# Altium footprint library Mega2560PCB库.PcbLib: 27 footprints (part 2 of 2)
Each footprint in its own frame and in the unit in brackets; x right, y up, seen from the top. Pads: shape width x height; smd on the part's side, far side on the other; paste and mask are expansions set on the pad; w line width, h text height; cw(c..) or ccw(c..) is an arc to the next point about the centre after c.
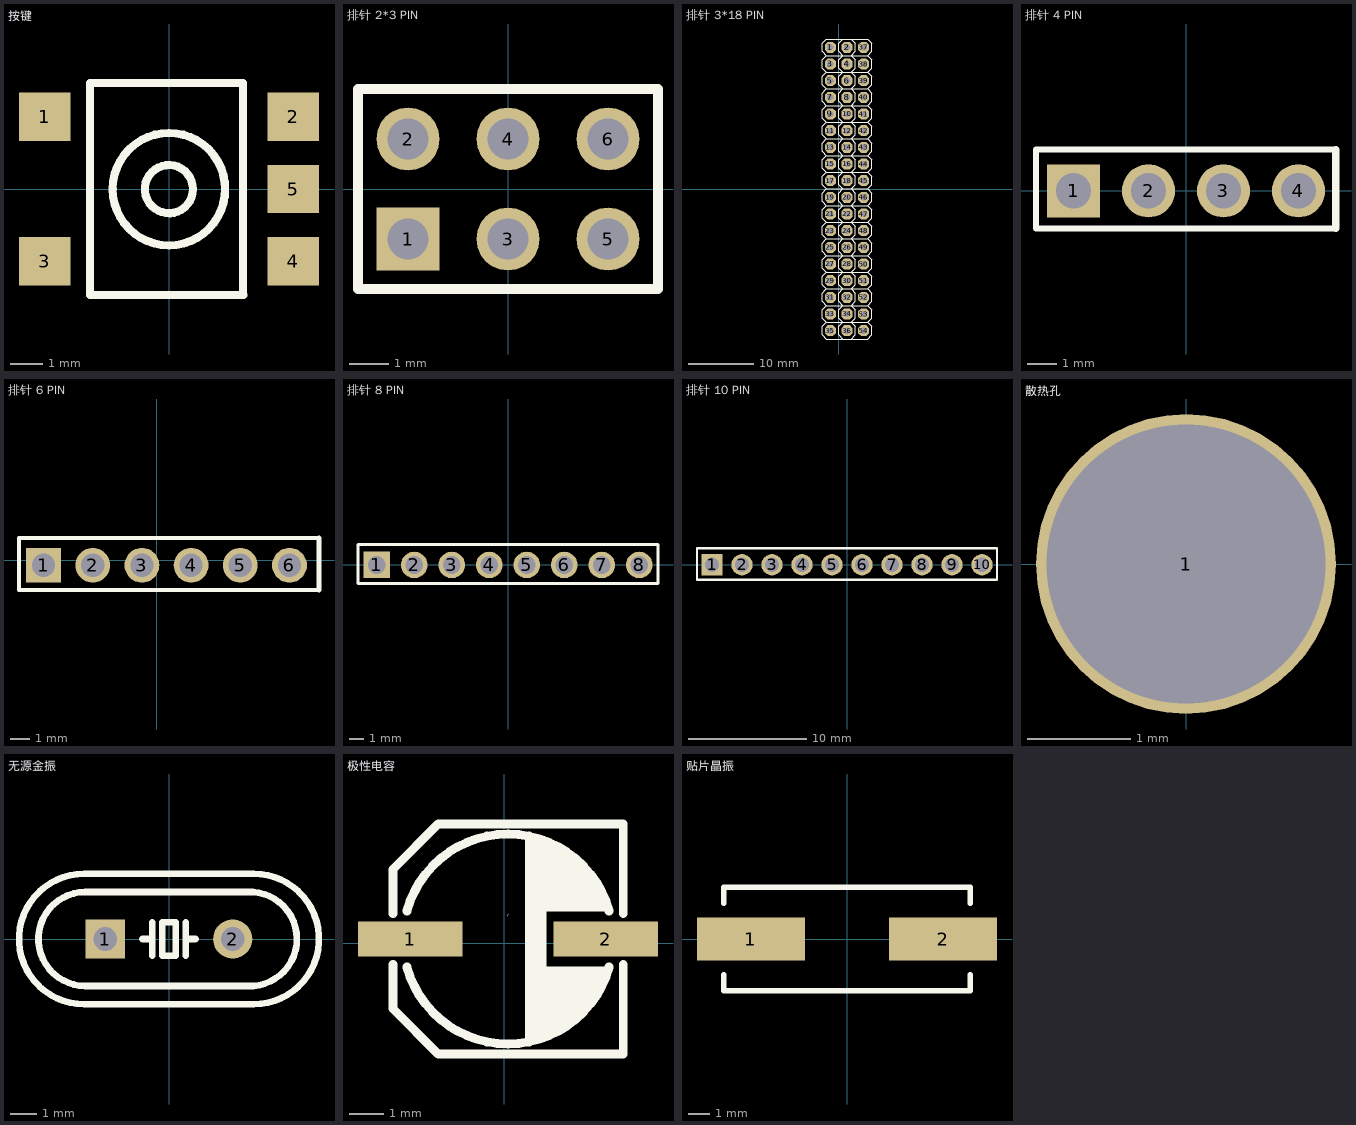
[diagram p1: the footprints below, top view; thin cyan lines are the x and y axes]

## 按键 [mm] "6*6"
pads (5):
  rect 1.6x1.5 smd: 1(-3.867,2.25) 2(3.867,2.25) 3(-3.867,-2.25) 4(3.867,-2.25) 5(3.867,0)
Top Overlay:
  circle w0.254: c-0.003,-0.003 r1.75
  circle w0.254: c-0.003,-0.003 r0.749
  lines w0.254: -2.461,-3.3 -2.461,3.302 2.3,3.302 2.3,-3.3 ; -2.382,-3.3 2.317,-3.3

## 排针 2*3 PIN [mm]
pads (6):
  rect 1.6x1.6 hole 1.05: 1(-2.54,-1.27)
  round 1.6 hole 1.05: 2(-2.54,1.27) 3(0,-1.27) 4(0,1.27) 5(2.54,-1.27) 6(2.54,1.27)
Top Overlay:
  lines w0.254: -3.81,-2.54 -3.556,-2.54 3.81,-2.54 3.81,2.54 -3.81,2.54 -3.81,-2.286 -3.81,-2.54
3D body "1001-3.STEP": height 8.54, standoff -3, extent -3.81,-2.54 3.81,0
3D body "1001-3.STEP": height 8.54, standoff -3, extent -3.81,0 3.81,2.54

## 排针 3*18 PIN [mil]
pads (54):
  oct 66x66 hole 38: 1(-50,850) 2(50,850) 3(-50,750) 4(50,750) 5(-50,650) 6(50,650) 7(-50,550) 8(50,550) 9(-50,450) 10(50,450) 11(-50,350) 12(50,350) 13(-50,250) 14(50,250) 15(-50,150) 16(50,150) 17(-50,50) 18(50,50) 19(-50,-50) 20(50,-50) 21(-50,-150) 22(50,-150) 23(-50,-250) 24(50,-250) 25(-50,-350) 26(50,-350) 27(-50,-450) 28(50,-450) 29(-50,-550) 30(50,-550) 31(-50,-650) 32(50,-650) 33(-50,-750) 34(50,-750) 35(-50,-850) 36(50,-850) 37(150,850) 38(150,750) 39(150,650) 40(150,550) 41(150,450) 42(150,350) 43(150,250) 44(150,150) 45(150,50) 46(150,-50) 47(150,-150) 48(150,-250) 49(150,-350) 50(150,-450) 51(150,-550) 52(150,-650) 53(150,-750) 54(150,-850)
Top Overlay:
  drawing of 254 lines, arcs and shapes, not listed
Mechanical 16:
  region: -60,-840 -60,-860 -40,-860 -40,-840
  region: 40,-840 40,-860 60,-860 60,-840
  region: -60,-740 -60,-760 -40,-760 -40,-740
  region: 40,-740 40,-760 60,-760 60,-740
  region: -60,-640 -60,-660 -40,-660 -40,-640
  region: 40,-640 40,-660 60,-660 60,-640
  region: -60,-540 -60,-560 -40,-560 -40,-540
  region: 40,-540 40,-560 60,-560 60,-540
  region: -60,-440 -60,-460 -40,-460 -40,-440
  region: 40,-440 40,-460 60,-460 60,-440
  region: -60,-340 -60,-360 -40,-360 -40,-340
  region: 40,-340 40,-360 60,-360 60,-340
  region: -60,-240 -60,-260 -40,-260 -40,-240
  region: 40,-240 40,-260 60,-260 60,-240
  region: -60,-140 -60,-160 -40,-160 -40,-140
  region: 40,-140 40,-160 60,-160 60,-140
  region: -60,-40 -60,-60 -40,-60 -40,-40
  region: 40,-40 40,-60 60,-60 60,-40
  region: -60,60 -60,40 -40,40 -40,60
  region: 40,60 40,40 60,40 60,60
  region: -60,160 -60,140 -40,140 -40,160
  region: 40,160 40,140 60,140 60,160
  region: -60,260 -60,240 -40,240 -40,260
  region: 40,260 40,240 60,240 60,260
  region: -60,360 -60,340 -40,340 -40,360
  region: -60,460 -60,440 -40,440 -40,460
  region: -60,560 -60,540 -40,540 -40,560
  region: 40,360 40,340 60,340 60,360
  region: 40,460 40,440 60,440 60,460
  region: 40,560 40,540 60,540 60,560
  region: -60,660 -60,640 -40,640 -40,660
  region: 40,660 40,640 60,640 60,660
  region: -60,760 -60,740 -40,740 -40,760
  region: 40,760 40,740 60,740 60,760
  region: 40,860 40,840 60,840 60,860
  region: -60,860 -60,840 -40,840 -40,860
3D body "1001-2.STEP": height 336.22, standoff -118.11, extent 0,-900 100,-700
3D body "1001-2.STEP": height 336.22, standoff -118.11, extent -100,-900 0,-700
3D body "1001-8.STEP": height 336.22, standoff -118.11, extent 0,-700 100,100
3D body "1001-8.STEP": height 336.22, standoff -118.11, extent -100,-700 0,100
3D body "1001-8.STEP": height 336.22, standoff -118.11, extent 0,100 100,900
3D body "1001-8.STEP": height 336.22, standoff -118.11, extent -100,100 0,900
3D body "1001-8.STEP": height 336.22, standoff -118.11, extent 100,100 200,900
3D body "1001-8.STEP": height 336.22, standoff -118.11, extent 100,-700 200,100
3D body "1001-2.STEP": height 336.22, standoff -118.11, extent 100,-900 200,-700

## 排针 4 PIN [mm]
pads (4):
  rect 1.8x1.8 hole 1.2: 1(-3.81,0)
  round 1.8 hole 1.2: 2(-1.27,0) 3(1.27,0) 4(3.81,0)
Top Overlay:
  lines w0.203: 5.08,-1.27 -5.08,-1.27 -5.08,1.397 5.08,1.397
  lines w0.254: 5.08,-1.27 5.08,1.397
3D body "1001-4.STEP": height 8.54, standoff -3, extent -5.08,-1.27 5.08,1.27

## 排针 6 PIN [mm]
pads (6):
  rect 1.8x1.8 hole 1.2: 1(-5.842,-0.254)
  round 1.8 hole 1.2: 2(-3.302,-0.254) 3(-0.762,-0.254) 4(1.778,-0.254) 5(4.318,-0.254) 6(6.858,-0.254)
Top Overlay:
  lines w0.203: 8.382,-1.524 -7.112,-1.524 -7.112,1.143 8.382,1.143
  lines w0.254: 8.382,-1.524 8.382,1.143
3D body "1001-6.STEP": height 8.54, standoff -3, extent -7.112,-1.524 8.128,1.016

## 排针 8 PIN [mm]
pads (8):
  rect 1.8x1.8 hole 1.2: 1(-8.89,0)
  round 1.8 hole 1.2: 2(-6.35,0) 3(-3.81,0) 4(-1.27,0) 5(1.27,0) 6(3.81,0) 7(6.35,0) 8(8.89,0)
Top Overlay:
  lines w0.203: -10.16,-1.27 0,-1.27 10.16,-1.27 10.16,1.397 0,1.397 -10.16,1.397 -10.16,-1.27
3D body "1001-8.STEP": height 8.54, standoff -3, extent -10.16,-1.27 10.16,1.27

## 排针 10 PIN [mm]
pads (10):
  rect 1.8x1.8 hole 1.2: 1(-11.43,0)
  round 1.8 hole 1.2: 2(-8.89,0) 3(-6.35,0) 4(-3.81,0) 5(-1.27,0) 6(1.27,0) 7(3.81,0) 8(6.35,0) 9(8.89,0) 10(11.43,0)
Top Overlay:
  lines w0.203: -12.7,-1.27 12.7,-1.27 12.7,1.397 -12.7,1.397 -12.7,-1.27
3D body "1001-8.STEP": height 8.54, standoff -3, extent -12.7,-1.27 7.62,1.27
3D body "1001-2.STEP": height 8.54, standoff -3, extent 7.62,-1.27 12.7,1.27

## 散热孔 [mm]
pads (1):
  round 2.9 hole 2.7: 1(0,0)

## 无源金振 [mm] "晶振 12M 16M"
pads (2):
  rect 1.5x1.5 hole 0.9: 1(-2.438,0)
  round 1.5 hole 0.9: 2(2.438,0)
Top Overlay:
  lines w0.254: -3.251,2.499 ccw(c-3.243,0) -3.25,-2.5 3.25,-2.5 ; -3.25,2.5 3.25,2.5 cw(c3.243,0) 3.251,-2.499 ; -3.2,1.8 3.2,1.8 cw(c3.093,0) 3,-1.801 ; -3.2,1.801 ccw(c-3.2,0) -3.2,-1.8 3,-1.8 ; -1.016,0 -0.635,0 ; -0.635,-0.635 -0.635,0 ; -0.635,0.635 -0.635,0 ; 0.635,-0.635 0.635,0 ; 0.635,0.635 0.635,0 ; 1.016,0 0.635,0 ; -0.254,-0.635 0.254,-0.635 0.254,0.635 -0.254,0.635 -0.254,-0.635
3D body "SW3dPS-HP49US(1).STEP": height 3.51, standoff -3.99, extent -5.675,-2.324 5.675,2.326

## 极性电容 [mm]
pads (2):
  rect 3x1 smd: 1(-2.691,0.124) 2(2.909,0.124)
Top Overlay:
  region: 0.609,-2.876 0.609,3.024 0.609,3.124 0.609,3.024 1.209,2.924 1.709,2.724 2.009,2.424 2.309,2.224 2.609,1.924 2.809,1.524 3.009,0.924 1.209,0.924 1.209,-0.676 3.009,-0.676 2.909,-0.876 2.809,-1.276 2.509,-1.576 2.309,-1.976 1.909,-2.276 1.509,-2.476 1.109,-2.676
  lines w0.254: -3.188,-0.607 -3.188,-1.875 -1.887,-3.175 3.411,-3.175 3.411,-0.607 ; -3.188,0.856 -3.188,2.123 -1.887,3.424 3.411,3.424 3.411,0.856 ; -2.791,-0.676 ccw(c0.109,0.124) 3.009,-0.676 ; -2.791,0.924 cw(c0.109,0.124) 3.009,0.924
Mechanical 15:
  lines w0.003: 0.084,0.796 0.134,0.847

## 贴片晶振 [mm] "OSC-SMD_L11.5-W4.8-P9.50"
pads (2):
  rect 5x2 smd: 1(-4.445,0) 2(4.445,0)
Top Overlay:
  lines w0.254: -5.7,-1.65 -5.7,-2.4 5.7,-2.4 5.7,-1.65 ; -5.7,1.65 -5.7,2.4 5.7,2.4 5.7,1.65